# Altium footprint library RiscPC_VRAM_16bit.PcbLib: 3 footprints
Each footprint in its own frame and in the unit in brackets; x right, y up, seen from the top. Pads: shape width x height; smd on the part's side, far side on the other; paste and mask are expansions set on the pad; w line width, h text height; cw(c..) or ccw(c..) is an arc to the next point about the centre after c.
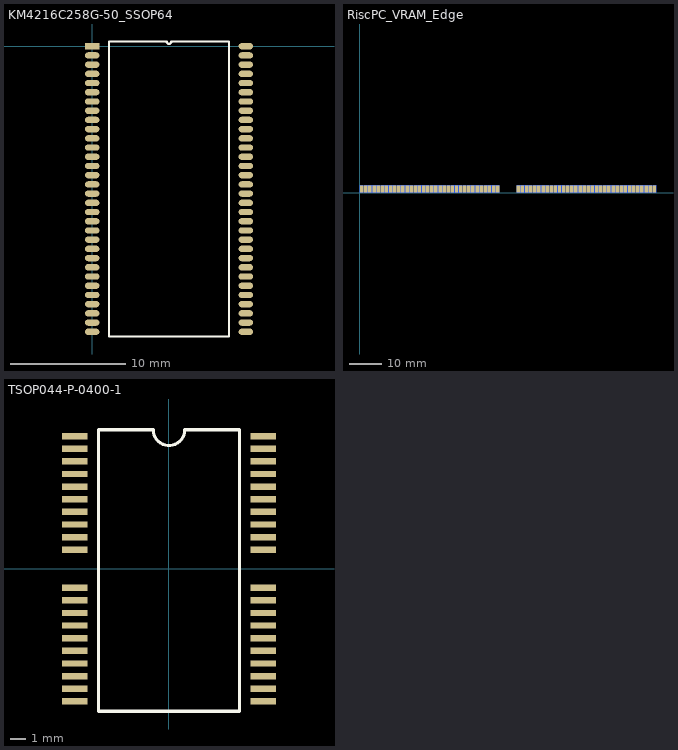
[diagram p0: the footprints below, top view; thin cyan lines are the x and y axes]

## KM4216C258G-50_SSOP64 [mm]
height 2.4
pads (64):
  rect 1.25x0.55 smd: 1(0,0)
  oval 1.25x0.55 smd: 2(0,-0.8) 3(0,-1.6) 4(0,-2.4) 5(0,-3.2) 6(0,-4) 7(0,-4.8) 8(0,-5.6) 9(0,-6.4) 10(0,-7.2) 11(0,-8) 12(0,-8.8) 13(0,-9.6) 14(0,-10.4) 15(0,-11.2) 16(0,-12) 17(0,-12.8) 18(0,-13.6) 19(0,-14.4) 20(0,-15.2) 21(0,-16) 22(0,-16.8) 23(0,-17.6) 24(0,-18.4) 25(0,-19.2) 26(0,-20) 27(0,-20.8) 28(0,-21.6) 29(0,-22.4) 30(0,-23.2) 31(0,-24) 32(0,-24.8) 33(13.34,-24.8) 34(13.34,-24) 35(13.34,-23.2) 36(13.34,-22.4) 37(13.34,-21.6) 38(13.34,-20.8) 39(13.34,-20) 40(13.34,-19.2) 41(13.34,-18.4) 42(13.34,-17.6) 43(13.34,-16.8) 44(13.34,-16) 45(13.34,-15.2) 46(13.34,-14.4) 47(13.34,-13.6) 48(13.34,-12.8) 49(13.34,-12) 50(13.34,-11.2) 51(13.34,-10.4) 52(13.34,-9.6) 53(13.34,-8.8) 54(13.34,-8) 55(13.34,-7.2) 56(13.34,-6.4) 57(13.34,-5.6) 58(13.34,-4.8) 59(13.34,-4) 60(13.34,-3.2) 61(13.34,-2.4) 62(13.34,-1.6) 63(13.34,-0.8) 64(13.34,0)
Top Overlay:
  lines w0.2: 1.46,-25.2 1.46,0.4 6.47,0.4 ccw(c6.67,0.4) 6.87,0.4 11.88,0.4 11.88,-25.2 1.46,-25.2
3D body: height 2.4, standoff 0, extent 0.325,-25.4 13.175,0.525

## RiscPC_VRAM_Edge [mm]
pads (136):
  rect 1.07x2.29 smd: A1(0.533,1.143) A2(1.803,1.143) A3(3.073,1.143) A4(4.343,1.143) A5(5.613,1.143) A6(6.883,1.143) A7(8.153,1.143) A8(9.423,1.143) A9(10.693,1.143) A10(11.963,1.143) A11(13.233,1.143) A12(14.503,1.143) A13(15.773,1.143) A14(17.043,1.143) A15(18.313,1.143) A16(19.583,1.143) A17(20.853,1.143) A18(22.123,1.143) A19(23.393,1.143) A20(24.663,1.143) A21(25.933,1.143) A22(27.203,1.143) A23(28.473,1.143) A24(29.743,1.143) A25(31.013,1.143) A26(32.283,1.143) A27(33.553,1.143) A28(34.823,1.143) A29(36.093,1.143) A30(37.363,1.143) A31(38.633,1.143) A32(39.903,1.143) A33(41.173,1.143) A34(42.443,1.143) A35(48.785,1.143) A36(50.055,1.143) A37(51.325,1.143) A38(52.595,1.143) A39(53.865,1.143) A40(55.135,1.143) A41(56.405,1.143) A42(57.675,1.143) A43(58.945,1.143) A44(60.215,1.143) A45(61.485,1.143) A46(62.755,1.143) A47(64.025,1.143) A48(65.295,1.143) A49(66.565,1.143) A50(67.835,1.143) A51(69.105,1.143) A52(70.375,1.143) A53(71.645,1.143) A54(72.915,1.143) A55(74.185,1.143) A56(75.455,1.143) A57(76.725,1.143) A58(77.995,1.143) A59(79.265,1.143) A60(80.535,1.143) A61(81.805,1.143) A62(83.075,1.143) A63(84.345,1.143) A64(85.615,1.143) A65(86.885,1.143) A66(88.155,1.143) A67(89.425,1.143) A68(90.695,1.143)
  rect 1.07x2.29 smd far side: B1(0.533,1.143) B2(1.803,1.143) B3(3.073,1.143) B4(4.343,1.143) B5(5.613,1.143) B6(6.883,1.143) B7(8.153,1.143) B8(9.423,1.143) B9(10.693,1.143) B10(11.963,1.143) B11(13.233,1.143) B12(14.503,1.143) B13(15.773,1.143) B14(17.043,1.143) B15(18.313,1.143) B16(19.583,1.143) B17(20.853,1.143) B18(22.123,1.143) B19(23.393,1.143) B20(24.663,1.143) B21(25.933,1.143) B22(27.203,1.143) B23(28.473,1.143) B24(29.743,1.143) B25(31.013,1.143) B26(32.283,1.143) B27(33.553,1.143) B28(34.823,1.143) B29(36.093,1.143) B30(37.363,1.143) B31(38.633,1.143) B32(39.903,1.143) B33(41.173,1.143) B34(42.443,1.143) B35(48.785,1.143) B36(50.055,1.143) B37(51.325,1.143) B38(52.595,1.143) B39(53.865,1.143) B40(55.135,1.143) B41(56.405,1.143) B42(57.675,1.143) B43(58.945,1.143) B44(60.215,1.143) B45(61.485,1.143) B46(62.755,1.143) B47(64.025,1.143) B48(65.295,1.143) B49(66.565,1.143) B50(67.835,1.143) B51(69.105,1.143) B52(70.375,1.143) B53(71.645,1.143) B54(72.915,1.143) B55(74.185,1.143) B56(75.455,1.143) B57(76.725,1.143) B58(77.995,1.143) B59(79.265,1.143) B60(80.535,1.143) B61(81.805,1.143) B62(83.075,1.143) B63(84.345,1.143) B64(85.615,1.143) B65(86.885,1.143) B66(88.155,1.143) B67(89.425,1.143) B68(90.695,1.143)

## TSOP044-P-0400-1 [mm]
pads (40):
  rect 1.6x0.4 smd: 1(-5.962,8.4) 2(-5.962,7.6) 3(-5.962,6.8) 4(-5.962,6) 5(-5.962,5.2) 6(-5.962,4.4) 7(-5.962,3.6) 8(-5.962,2.8) 9(-5.962,2) 10(-5.962,1.2) 13(-5.962,-1.2) 14(-5.962,-2) 15(-5.962,-2.8) 16(-5.962,-3.6) 17(-5.962,-4.4) 18(-5.962,-5.2) 19(-5.962,-6) 20(-5.962,-6.8) 21(-5.962,-7.6) 22(-5.962,-8.4) 23(5.963,-8.4) 24(5.963,-7.6) 25(5.963,-6.8) 26(5.963,-6) 27(5.963,-5.2) 28(5.963,-4.4) 29(5.963,-3.6) 30(5.963,-2.8) 31(5.963,-2) 32(5.963,-1.2) 35(5.963,1.2) 36(5.963,2) 37(5.963,2.8) 38(5.963,3.6) 39(5.963,4.4) 40(5.963,5.2) 41(5.963,6) 42(5.963,6.8) 43(5.963,7.6) 44(5.963,8.4)
Top Overlay:
  lines w0.2: -4.45,8.8 -4.465,8.8 -4.465,-9.01 -4.45,-9.025 4.45,-9.025 4.465,-9.01 4.465,8.8 4.45,8.8 ; -4.45,8.8 -4.45,8.8 ; -4.45,8.8 -1,8.8 ccw(c0,8.8) 1,8.8 4.45,8.8 ; 4.45,8.8 4.45,8.8
3D body: height 1.5, standoff 0, extent -4.8,-8.875 4.8,8.675